# EAGLE library part TDA1552Q (library Audio-Power-amlifier V.2.0)
The TDA1552Q is an integrated class-B output amplifier in a 13-lead single-in-line (SIL) plastic power package. The circuit contains 2 x 22 W amplifiers in Bridge Tied Load (BTL) configuration. The device is primarily developed for car radio applications.
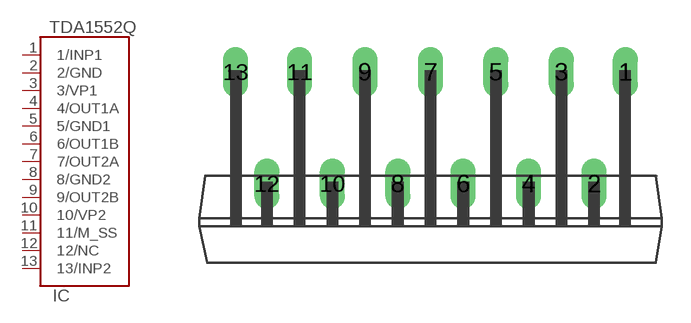
[diagram p232: symbol with the pads of SOT141-6; footprint SOT141-6]

Designator prefix IC

## TDA1552Q  [SOT141-6]
1  1/INP1
2  2/GND  pwr
3  3/VP1  pwr
4  4/OUT1A  out
5  5/GND1  pwr
6  6/OUT1B  out
7  7/OUT2A  out
8  8/GND2  pwr
9  9/OUT2B  out
10  10/VP2  pwr
11  11/M_SS  in
12  12/NC  nc
13  13/INP2  in

## Footprint SOT141-6 (pad centres in mm)
drill 0.8 long: 1 10.12,5.8; 2 8.5,0; 3 6.8,5.8; 4 5.1,0; 5 3.4,5.8; 6 1.7,0; 7 0,5.8; 8 -1.7,0; 9 -3.4,5.8; 10 -5.1,0; 11 -6.8,5.8; 12 -8.5,0; 13 -10.12,5.8